# EAGLE library part PMEA-PIEFOUNDRY-16CHAN (library pmea-piefoundry)
16 channel polymer microelectrode array (pMEA) connector; Connection requires 16 wirebond (soft-gold) pads for ultrasonic bump bonding 3/25/25 Kee Scholten PIE Foundry @ USC
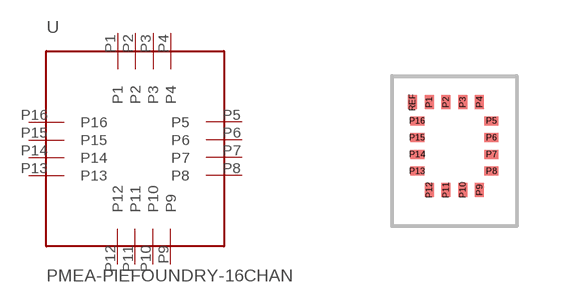
[diagram p2: symbol with the pads of PMEA-PIEFOUNDRY-16CHAN+REF; footprint PMEA-PIEFOUNDRY-16CHAN+REF]

Designator prefix U

## PMEA-PIEFOUNDRY-16CHAN  [PMEA-PIEFOUNDRY-16CHAN+REF]
P1  P1
P2  P2
P3  P3
P4  P4
P5  P5
P6  P6
P7  P7
P8  P8
P9  P9
P10  P10
P11  P11
P12  P12
P13  P13
P14  P14
P15  P15
P16  P16

## Footprint PMEA-PIEFOUNDRY-16CHAN+REF (pad centres in mm)
Parylene C Bond Pad for Standard PIE Foundry 16 Pad MEA Connector with Integrated Reference
smd 0.225 x 0.35: P1 -0.63,1.1; P2 -0.21,1.1; P3 0.21,1.1; P4 0.63,1.1; P9 0.63,-1.1; P10 0.21,-1.1; P11 -0.21,-1.1; P12 -0.63,-1.1; REF -1.05,1.1
smd 0.35 x 0.225: P5 0.93,0.63; P6 0.93,0.21; P7 0.93,-0.21; P8 0.93,-0.63; P13 -0.93,-0.63; P14 -0.93,-0.21; P15 -0.93,0.21; P16 -0.93,0.63